# EAGLE library part GBA-TRIPLE-EMI-FILTER (library arcadetv)
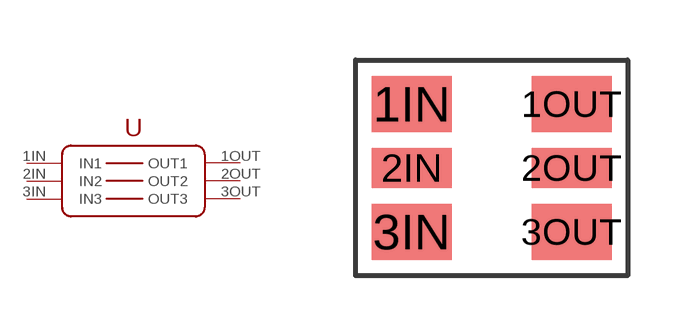
[diagram p18: symbol with the pads of GBA-TRIPLE-EMI-FILTER; footprint GBA-TRIPLE-EMI-FILTER]

Designator prefix -

## GBA-TRIPLE-EMI-FILTER  [GBA-TRIPLE-EMI-FILTER]
1IN  IN1
1OUT  OUT1
2IN  IN2
2OUT  OUT2
3IN  IN3
3OUT  OUT3

## Footprint GBA-TRIPLE-EMI-FILTER (pad centres in mm)
smd 2 x 1.4: 1IN -2,1.6; 1OUT 2,1.6; 3IN -2,-1.6; 3OUT 2,-1.6
smd 2 x 1: 2IN -2,0; 2OUT 2,0